# Altium integrated library TestBoard.IntLib: 3 symbols
Pins are listed as number, name and electrical type; pins without a type are passive.

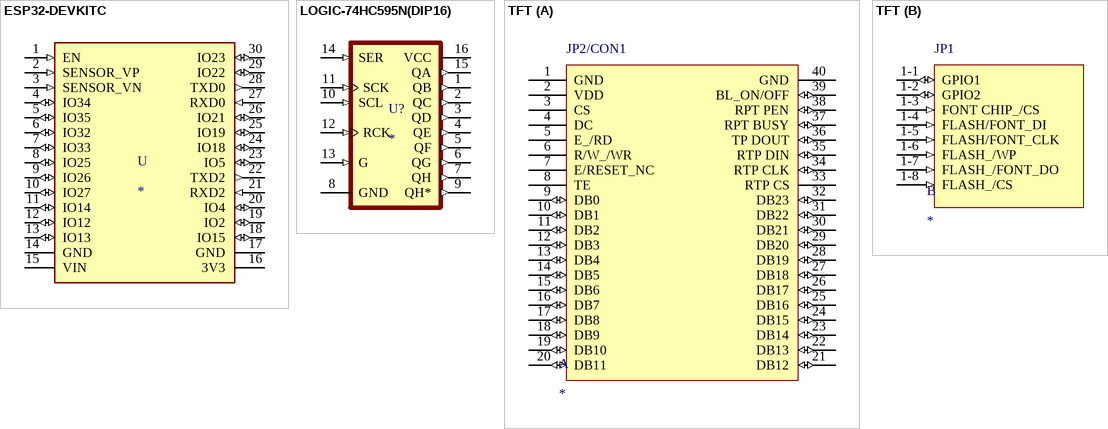
[diagram p0: symbols ESP32-DEVKITC to TFT]

## ESP32-DEVKITC
designator U
- Transceiver; 802.11 b/g/n _Wi-Fi, WiFi, WLAN_, BluetoothÂ® Smart Ready 4.x Dual Mode For Use With ESP-WROOM-32; MP: ESP32-DEVKITC-32D-F; MF: Espressif Systems; Price: None; SnapEDA_Link: https://www.snapeda.com/parts/ESP32-DEVKITC-32D-F/Espressif%20Systems/view-part/4220172/?ref=snap; Availability: Unavailable; Value: *; Package: None
footprint MODULE_ESP32-DEVKITC
pins: 1 EN (in), 2 SENSOR_VP (in), 3 SENSOR_VN (in), 4 IO34 (io), 5 IO35 (io), 6 IO32 (io), 7 IO33 (io), 8 IO25 (io), 9 IO26 (io), 10 IO27 (io), 11 IO14 (io), 12 IO12 (io), 13 IO13 (io), 14 GND (power), 15 VIN (power), 16 3V3 (power), 17 GND (power), 18 IO15 (io), 19 IO2 (io), 20 IO4 (io), 21 RXD2 (in), 22 TXD2 (out), 23 IO5 (io), 24 IO18 (io), 25 IO19 (io), 26 IO21 (io), 27 RXD0 (in), 28 TXD0 (out), 29 IO22 (io), 30 IO23 (io)

## LOGIC-74HC595N(DIP16)
designator U?
Shift Shift Register 1 Element 8 Bit 16-PDIP; MP: 74HC595N; MF: Texas Instruments; Check_prices: https://www.snapeda.com/parts/74HC595N/Texas+Instruments/view-part/?ref=eda; Value: *; Availability: In Stock; Price: None; Package: SOT38-4-16 Nexperia; SnapEDA_Link: https://www.snapeda.com/parts/74HC595N/Texas+Instruments/view-part/?ref=snap; Purchase-URL: https://pricing.snapeda.com/search/part/74HC595N/?ref=eda
footprint DIP16-2.54-20.32X5.84MM
footprint SO16
pins: 1 QB (out), 2 QC (out), 3 QD (out), 4 QE (out), 5 QF (out), 6 QG (out), 7 QH (out), 8 GND (power), 9 QH* (out), 10 SCL (in), 11 SCK (in), 12 RCK (in), 13 G (in), 14 SER (in), 15 QA (out), 16 VCC (power)

## TFT
designator ?
footprint Female Header 20x2
part A pins: 1 GND (power), 2 VDD (power), 3 CS (power), 4 DC (power), 5 E_/RD (power), 6 R/W_/WR (power), 7 E/RESET_NC (power), 8 TE (power), 9 DB0 (io), 10 DB1 (io), 11 DB2 (io), 12 DB3 (io), 13 DB4 (io), 14 DB5 (io), 15 DB6 (io), 16 DB7 (io), 17 DB8 (io), 18 DB9 (io), 19 DB10 (io), 20 DB11 (io), 21 DB12 (io), 22 DB13 (io), 23 DB14 (io), 24 DB15 (io), 25 DB16 (io), 26 DB17 (io), 27 DB18 (io), 28 DB19 (io), 29 DB20 (io), 30 DB21 (io), 31 DB22 (io), 32 DB23 (io), 33 RTP CS (power), 34 RTP CLK (io), 35 RTP DIN (io), 36 TP DOUT (io), 37 RPT BUSY (io), 38 RPT PEN (io), 39 BL_ON/OFF (io), 40 GND (power)
part B pins: 1-1 GPIO1 (io), 1-2 GPIO2 (io), 1-3 FONT CHIP_/CS (in), 1-4 FLASH/FONT_DI (in), 1-5 FLASH/FONT_CLK (in), 1-6 FLASH_/WP (in), 1-7 FLASH_/FONT_DO (in), 1-8 FLASH_/CS (in)
part A text: JP2/CON1
part B text: JP1